# EAGLE library part PETERATMEGA644_LCD37 (library microtouch)
2.4 Inch LCD Panel JCTTQ2437PS01-T01
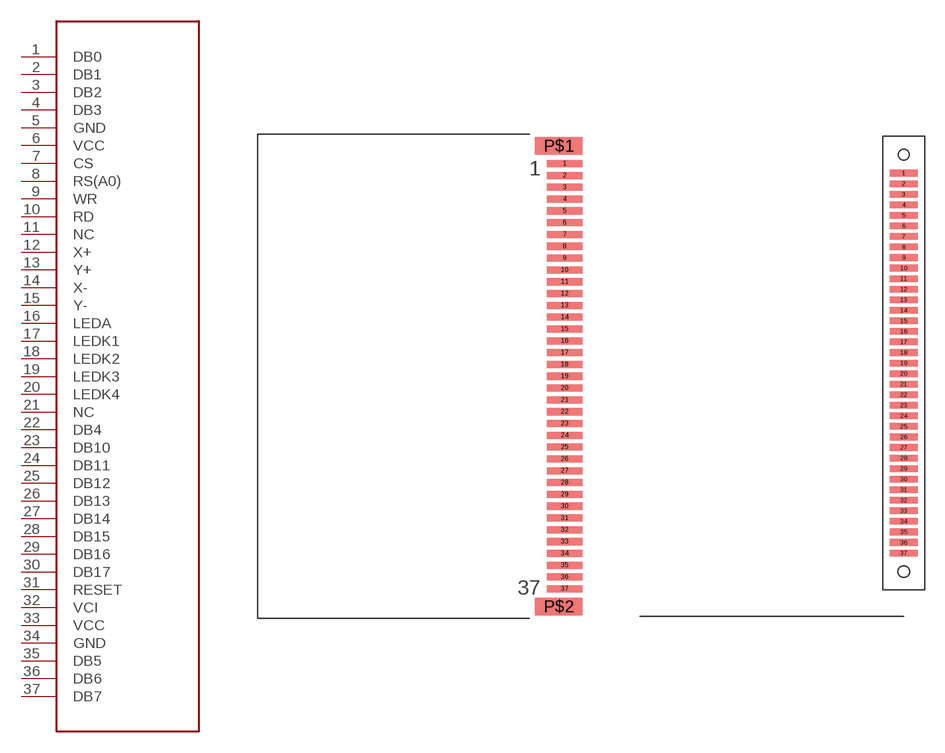
[diagram p1: symbol with the pads of PETERATMEGA644_LCD371MM; footprints PETERATMEGA644_LCD371MM, PETERATMEGA644_LCD37N]

Designator prefix -

## PETERATMEGA644_LCD37  [PETERATMEGA644_LCD371MM]
1  DB0
2  DB1
3  DB2
4  DB3
5  GND
6  VCC
7  CS
8  RS(A0)
9  WR
10  RD
11  NC
12  X+
13  Y+
14  X-
15  Y-
16  LEDA
17  LEDK1
18  LEDK2
19  LEDK3
20  LEDK4
21  NC
22  DB4
23  DB10
24  DB11
25  DB12
26  DB13
27  DB14
28  DB15
29  DB16
30  DB17
31  RESET
32  VCI
33  VCC
34  GND
35  DB5
36  DB6
37  DB7

## PETERATMEGA644_LCD37BOARDBOUNDS  [PETERATMEGA644_LCD37N]
Pads as for PETERATMEGA644_LCD371MM

## Footprint PETERATMEGA644_LCD371MM (pad centres in mm)
1MM 320x240 LCD
smd 3 x 0.6: 1 0,18; 2 0,17; 3 0,16; 4 0,15; 5 0,14; 6 0,13; 7 0,12; 8 0,11; 9 0,10; 10 0,9; 11 0,8; 12 0,7; 13 0,6; 14 0,5; 15 0,4; 16 0,3; 17 0,2; 18 0,1; 19 0,0; 20 0,-1; 21 0,-2; 22 0,-3; 23 0,-4; 24 0,-5; 25 0,-6; 26 0,-7; 27 0,-8; 28 0,-9; 29 0,-10; 30 0,-11; 31 0,-12; 32 0,-13; 33 0,-14; 34 0,-15; 35 0,-16; 36 0,-17; 37 0,-18
smd 4 x 1.5: P$1 -0.5,19.5; P$2 -0.5,-19.5

## Footprint PETERATMEGA644_LCD37N (pad centres in mm)
smd 2.1 x 0.5: 1 0,14.4; 2 0,13.6; 3 0,12.8; 4 0,12; 5 0,11.2; 6 0,10.4; 7 0,9.6; 8 0,8.8; 9 0,8; 10 0,7.2; 11 0,6.4; 12 0,5.6; 13 0,4.8; 14 0,4; 15 0,3.2; 16 0,2.4; 17 0,1.6; 18 0,0.8; 19 0,0; 20 0,-0.8; 21 0,-1.6; 22 0,-2.4; 23 0,-3.2; 24 0,-4; 25 0,-4.8; 26 0,-5.6; 27 0,-6.4; 28 0,-7.2; 29 0,-8; 30 0,-8.8; 31 0,-9.6; 32 0,-10.4; 33 0,-11.2; 34 0,-12; 35 0,-12.8; 36 0,-13.6; 37 0,-14.4